# EAGLE library part NCP81233MNTXG (library NCP81233MNTXG)
Multi-Phase Controller, Configurable, 4.5 V to 20 V, I2C Source: Datasheet <http://www.onsemi.com/pub/Collateral/NCP81233-D.PDF>
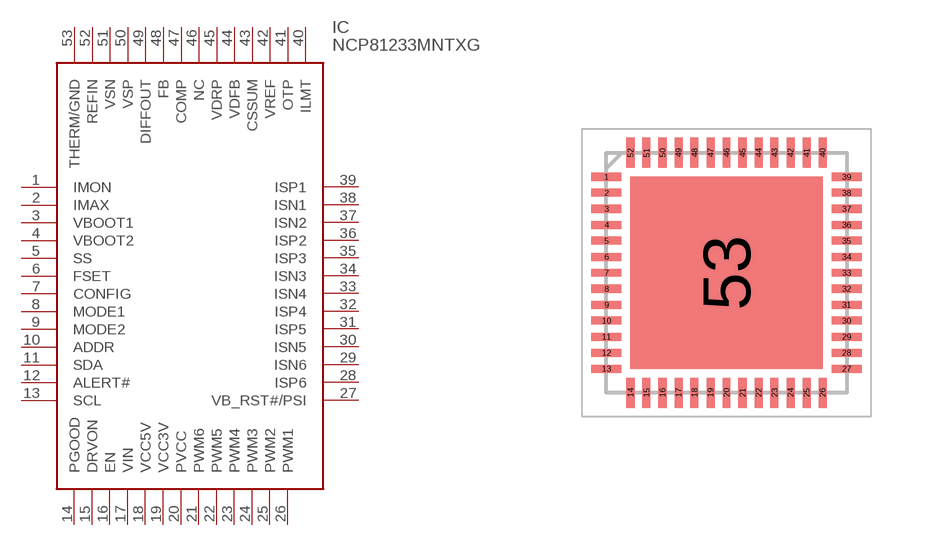
[diagram p0: symbol with the pads of QFN40P600X600X100-53N; footprint QFN40P600X600X100-53N]

Designator prefix IC

## NCP81233MNTXG (Description: Multi-Phase Controller, Configurable, 4.5 V to 20 V, I2C; Height: 1mm; Manufacturer_Name: onsemi; Manufacturer_Part_Number: NCP81233MNTXG; Mouser_Part_Number: 863-NCP81233MNTXG; Mouser_Price-Stock: https://www.mouser.co.uk/ProductDetail/ON-Semiconductor/NCP81233MNTXG/?qs=z6PAvqrnkvQJZ4opJwgsbQ%3D%3D)  [QFN40P600X600X100-53N]
1  IMON
2  IMAX
3  VBOOT1
4  VBOOT2
5  SS
6  FSET
7  CONFIG
8  MODE1
9  MODE2
10  ADDR
11  SDA
12  ALERT#
13  SCL
14  PGOOD
15  DRVON
16  EN
17  VIN
18  VCC5V
19  VCC3V
20  PVCC
21  PWM6
22  PWM5
23  PWM4
24  PWM3
25  PWM2
26  PWM1
27  VB_RST#/PSI
28  ISP6
29  ISN6
30  ISN5
31  ISP5
32  ISP4
33  ISN4
34  ISN3
35  ISP3
36  ISP2
37  ISN2
38  ISN1
39  ISP1
40  ILMT
41  OTP
42  VREF
43  CSSUM
44  VDFB
45  VDRP
46  NC  nc
47  COMP
48  FB
49  DIFFOUT
50  VSP
51  VSN
52  REFIN
53  THERM/GND

## Footprint QFN40P600X600X100-53N (pad centres in mm)
QFN52 6x6, 0.4P CASE 485BE-01 ISSUE B
smd 0.75 x 0.2: 1 -3,2.4; 2 -3,2; 3 -3,1.6; 4 -3,1.2; 5 -3,0.8; 6 -3,0.4; 7 -3,0; 8 -3,-0.4; 9 -3,-0.8; 10 -3,-1.2; 11 -3,-1.6; 12 -3,-2; 13 -3,-2.4; 27 3,-2.4; 28 3,-2; 29 3,-1.6; 30 3,-1.2; 31 3,-0.8; 32 3,-0.4; 33 3,0; 34 3,0.4; 35 3,0.8; 36 3,1.2; 37 3,1.6; 38 3,2; 39 3,2.4
smd 0.2 x 0.75: 14 -2.4,-3; 15 -2,-3; 16 -1.6,-3; 17 -1.2,-3; 18 -0.8,-3; 19 -0.4,-3; 20 0,-3; 21 0.4,-3; 22 0.8,-3; 23 1.2,-3; 24 1.6,-3; 25 2,-3; 26 2.4,-3; 40 2.4,3; 41 2,3; 42 1.6,3; 43 1.2,3; 44 0.8,3; 45 0.4,3; 46 0,3; 47 -0.4,3; 48 -0.8,3; 49 -1.2,3; 50 -1.6,3; 51 -2,3; 52 -2.4,3
smd 4.8 x 4.8: 53 0,0